# EAGLE library part 50376-007 (library con-aces-50376-series-)
ACES CONNECTORS 50376 SERIES ACES Connecors 50376 <https://www.acesconn.com/series/50376-xxxxx-xxx/2725>
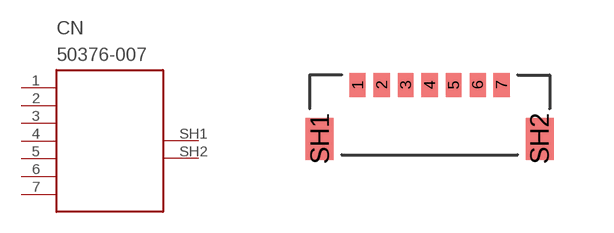
[diagram p3: symbol with the pads of 50376-007; footprint 50376-007]

Designator prefix CN

## 50376-007  [50376-007]
1  1
2  2
3  3
4  4
5  5
6  6
7  7
SH1  SH1
SH2  SH2

## Footprint 50376-007 (pad centres in mm)
smd 0.4 x 0.6: 1 -1.8,0; 2 -1.2,0; 3 -0.6,0; 4 0,0; 5 0.6,0; 6 1.2,0; 7 1.8,0
smd 0.7 x 1.05: SH1 -2.75,-1.35; SH2 2.75,-1.35